# Altium footprint library PassiveComponents.PcbLib: 57 footprints (part 2 of 4)
Each footprint in its own frame and in the unit in brackets; x right, y up, seen from the top. Pads: shape width x height; smd on the part's side, far side on the other; paste and mask are expansions set on the pad; w line width, h text height; cw(c..) or ccw(c..) is an arc to the next point about the centre after c.
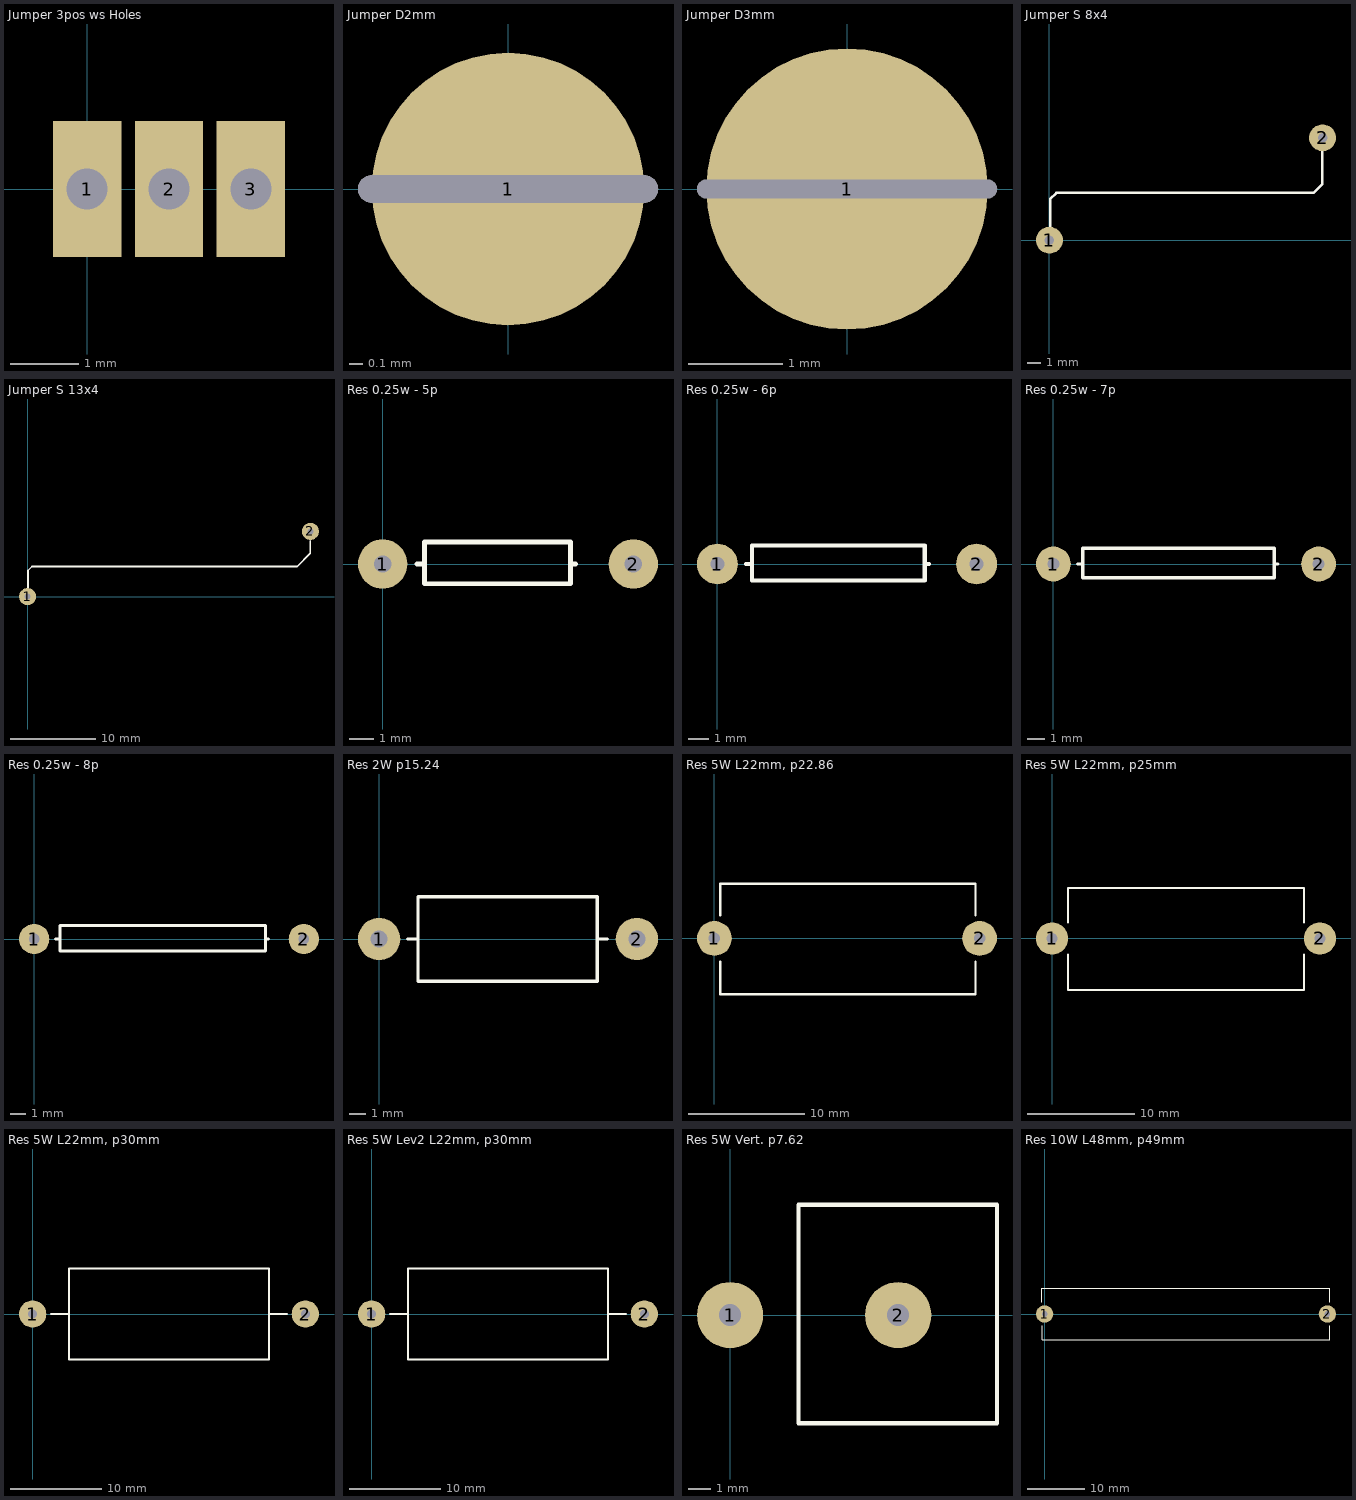
[diagram p1: the footprints below, top view; thin cyan lines are the x and y axes]

## Jumper 3pos ws Holes [mm]
pads (3):
  rect 1x2 hole 0.6: 1(0,0) 2(1.2,0) 3(2.4,0)

## Jumper D2mm [mm]
pads (1):
  round 2 hole 0.2 slot 2.2 at 0 deg unplated: 1(0,0)

## Jumper D3mm [mm]
pads (1):
  round 3 hole 0.2 slot 3.2 at 0 deg unplated: 1(0,0)

## Jumper S 8x4 [mm]
height 0.5
pads (2):
  round 2 hole 0.7: 1(0,0) 2(20.32,7.62)
Top Overlay:
  lines w0.2: 0.05,1.025 0.05,3.05 0.525,3.525 19.65,3.525 20.3,4.175 20.3,6.6
3D body: height 0.5, standoff 0.1, extent 0,0 20.375,7.62

## Jumper S 13x4 [mm]
height 0.5
pads (2):
  round 2 hole 0.7: 1(0,0) 2(33.02,7.62)
Top Overlay:
  lines w0.2: 0.05,1.025 0.05,3.05 0.525,3.525 31.465,3.525 33,5.06 33,6.5
3D body: height 0.5, standoff 0.1, extent -0.018,-0.025 33.05,7.608

## Res 0.25w - 5p [mm] "L p7.62; horisontal"
height 2
pads (2):
  round 2 hole 0.7: 1(0,0) 2(10.16,0)
Top Overlay:
  lines w0.2: 1.4,0 1.7,0 ; 7.62,0 7.82,0 ; 1.7,0 1.7,-0.8 7.62,-0.8 7.62,0.9 1.7,0.9 1.7,0

## Res 0.25w - 6p [mm] "L p7.62; horisontal"
height 2
pads (2):
  round 2 hole 0.7: 1(0,0) 2(12.7,0)
Top Overlay:
  lines w0.2: 1.4,0 1.7,0 ; 10.16,0 10.36,0 ; 1.7,0 1.7,-0.8 10.16,-0.8 10.16,0.9 1.7,0.9 1.7,0

## Res 0.25w - 7p [mm] "L p7.62; horisontal"
height 2
pads (2):
  round 2 hole 0.7: 1(0,0) 2(15.24,0)
Top Overlay:
  lines w0.2: 1.4,0 1.7,0 ; 12.7,0 12.9,0 ; 1.7,0 1.7,-0.8 12.7,-0.8 12.7,0.9 1.7,0.9 1.7,0

## Res 0.25w - 8p [mm] "L p7.62; horisontal"
height 2
pads (2):
  round 2 hole 0.7: 1(0,0) 2(17.78,0)
Top Overlay:
  lines w0.2: 1.4,0 1.7,0 ; 15.24,0 15.44,0 ; 1.7,0 1.7,0.9 15.24,0.9 15.24,-0.8 1.7,-0.8 1.7,0

## Res 2W p15.24 [mm] "D5mm, Pin2pin 15.24mm"
height 5
pads (2):
  round 2.5 hole 1: 1(0,0) 2(15.24,0)
Top Overlay:
  lines w0.2: 1.7,0 2.3,0 ; 12.9,0 13.5,0 ; 2.3,0 2.3,-2.5 12.9,-2.5 12.9,2.5 2.3,2.5 2.3,0
3D body "Residtor 1W (L12 D5 p15.24) .STEP": height 5, standoff -3, extent -0.35,-2.503 15.59,2.497

## Res 5W L22mm, p22.86 [mm] "L22mm pp22.86; horisontal"
height 9
pads (2):
  round 3 hole 1: 1(0,0) 2(22.86,0)
Top Overlay:
  lines w0.2: 0.5,-2 0.5,-4.8 22.5,-4.8 22.5,-2 ; 0.5,2 0.5,4.7 22.5,4.7 22.5,2
3D body "Resistor 3W (H) L17.5 D6.5 P2P22.86.STEP": height 6.5, standoff -3, extent -0.4,-3.25 23.26,3.25
3D body: height 9.5, standoff 0, extent 0.5,-4.5 22.5,4.5

## Res 5W L22mm, p25mm [mm] "L22mm p25; horisontal"
height 9
pads (2):
  round 3 hole 1: 1(0,0) 2(25,0)
Top Overlay:
  lines w0.2: 1.5,-1.5 1.5,-4.8 23.5,-4.8 23.5,-1.5 ; 1.5,1.5 1.5,4.7 23.5,4.7 23.5,1.5
3D body "Resistor 5W (H) v5.STEP": height 9.01, standoff -2.11, extent -0.4,-4.75 25.407,4.75

## Res 5W L22mm, p30mm [mm] "L22mm p30; horisontal"
height 9
pads (2):
  round 3 hole 1: 1(0,0) 2(30,0)
Top Overlay:
  lines w0.2: 2,0 4,0 ; 26,0 28,0 ; 4,-5 26,-5 26,5 4,5 4,1 4,-5
3D body "Resistor 5W (H) v3.STEP": height 8.35, standoff -2.85, extent -0.565,-3.475 30.715,3.525

## Res 5W Lev2 L22mm, p30mm [mm] "Level 2 (second) L22mm p30; horisontal"
height 19
pads (2):
  round 3 hole 1: 1(0,0) 2(30,0)
Top Overlay:
  lines w0.2: 2,0 4,0 ; 26,0 28,0 ; 4,-5 4,1 4,5 26,5 26,-5 4,-5
3D body "Resistor 5W (H) v3.STEP": height 17.35, standoff 6.15, extent -0.565,-3.475 30.715,3.525

## Res 5W Vert. p7.62 [mm] "L22mm p7.62; Vertical"
height 24
pads (2):
  round 3 hole 1: 1(0,0) 2(7.62,0)
Top Overlay:
  lines w0.2: 3.1,-1.6 3.1,5 12.1,5 12.1,1.5 12.1,-4.9 3.1,-4.9 3.1,-1.5
3D body "Resistor 5W (V).STEP": height 25.54, standoff -3.4, extent -0.395,-5 12.1,5

## Res 10W L48mm, p49mm [mm] "L48mm p49; horisontal"
height 9
pads (2):
  round 3 hole 1: 1(0,0) 2(49,0)
Top Overlay:
  lines w0.2: -0.5,2 -0.5,4.5 49.4,4.5 49.4,2 ; -0.4,-2 -0.4,-4.5 49.4,-4.5 49.4,-2
3D body "Resistir 10W 9x9x48mm Pitch-49mm SQP10AJB.STEP": height 10.55, standoff -4.04, extent -0.4,-4.5 49.4,4.5